# Altium schematic symbol library HEADERS.SchLib: 8 symbols
Pins are listed as number, name and electrical type; pins without a type are passive.

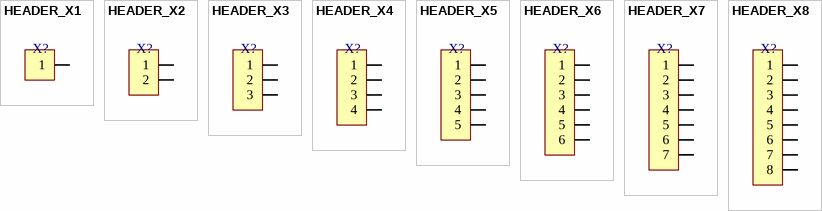
[diagram p0: symbols HEADER_X1 to HEADER_X8]

## HEADER_X1
designator X?  (value not drawn)
footprint HEADER_1X1_M
pins: 1

## HEADER_X2
designator X?  (value not drawn)
footprint HEADER_1X2_F
footprint HEADER_1X2_M
pins: 1, 2

## HEADER_X3
designator X?  (value not drawn)
footprint HEADER_1X3_F
footprint HEADER_1X3_M
pins: 1, 2, 3

## HEADER_X4
designator X?  (value not drawn)
footprint HEADER_1X4_F
footprint HEADER_1X4_M
pins: 1, 2, 3, 4

## HEADER_X5
designator X?  (value not drawn)
footprint HEADER_1X5_F
footprint HEADER_1X5_M
pins: 1, 2, 3, 4, 5

## HEADER_X6
designator X?  (value not drawn)
footprint HEADER_1X6_F
footprint HEADER_1X6_M
pins: 1, 2, 3, 4, 5, 6

## HEADER_X7
designator X?  (value not drawn)
footprint HEADER_1X7_F
footprint HEADER_1X7_M
pins: 1, 2, 3, 4, 5, 6, 7

## HEADER_X8
designator X?  (value not drawn)
footprint HEADER_1X8_F
footprint HEADER_1X8_M
pins: 1, 2, 3, 4, 5, 6, 7, 8